# Altium footprint library CM4102008.PcbLib: 1 footprints
Each footprint in its own frame and in the unit in brackets; x right, y up, seen from the top. Pads: shape width x height; smd on the part's side, far side on the other; paste and mask are expansions set on the pad; w line width, h text height; cw(c..) or ccw(c..) is an arc to the next point about the centre after c.
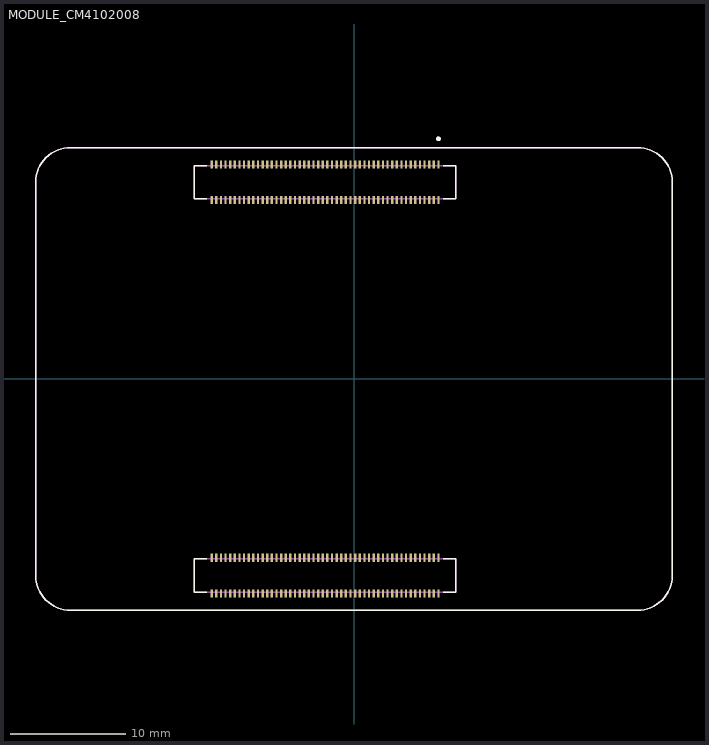
[diagram p0: the footprint, top view; thin cyan lines are the x and y axes]

## MODULE_CM4102008 [mm]
height 5.188
pads (200):
  rect 0.2x0.7 smd: 1(7.3,18.54) 2(7.3,15.46) 3(6.9,18.54) 4(6.9,15.46) 5(6.5,18.54) 6(6.5,15.46) 7(6.1,18.54) 8(6.1,15.46) 9(5.7,18.54) 10(5.7,15.46) 11(5.3,18.54) 12(5.3,15.46) 13(4.9,18.54) 14(4.9,15.46) 15(4.5,18.54) 16(4.5,15.46) 17(4.1,18.54) 18(4.1,15.46) 19(3.7,18.54) 20(3.7,15.46) 21(3.3,18.54) 22(3.3,15.46) 23(2.9,18.54) 24(2.9,15.46) 25(2.5,18.54) 26(2.5,15.46) 27(2.1,18.54) 28(2.1,15.46) 29(1.7,18.54) 30(1.7,15.46) 31(1.3,18.54) 32(1.3,15.46) 33(0.9,18.54) 34(0.9,15.46) 35(0.5,18.54) 36(0.5,15.46) 37(0.1,18.54) 38(0.1,15.46) 39(-0.3,18.54) 40(-0.3,15.46) 41(-0.7,18.54) 42(-0.7,15.46) 43(-1.1,18.54) 44(-1.1,15.46) 45(-1.5,18.54) 46(-1.5,15.46) 47(-1.9,18.54) 48(-1.9,15.46) 49(-2.3,18.54) 50(-2.3,15.46) 51(-2.7,18.54) 52(-2.7,15.46) 53(-3.1,18.54) 54(-3.1,15.46) 55(-3.5,18.54) 56(-3.5,15.46) 57(-3.9,18.54) 58(-3.9,15.46) 59(-4.3,18.54) 60(-4.3,15.46) 61(-4.7,18.54) 62(-4.7,15.46) 63(-5.1,18.54) 64(-5.1,15.46) 65(-5.5,18.54) 66(-5.5,15.46) 67(-5.9,18.54) 68(-5.9,15.46) 69(-6.3,18.54) 70(-6.3,15.46) 71(-6.7,18.54) 72(-6.7,15.46) 73(-7.1,18.54) 74(-7.1,15.46) 75(-7.5,18.54) 76(-7.5,15.46) 77(-7.9,18.54) 78(-7.9,15.46) 79(-8.3,18.54) 80(-8.3,15.46) 81(-8.7,18.54) 82(-8.7,15.46) 83(-9.1,18.54) 84(-9.1,15.46) 85(-9.5,18.54) 86(-9.5,15.46) 87(-9.9,18.54) 88(-9.9,15.46) 89(-10.3,18.54) 90(-10.3,15.46) 91(-10.7,18.54) 92(-10.7,15.46) 93(-11.1,18.54) 94(-11.1,15.46) 95(-11.5,18.54) 96(-11.5,15.46) 97(-11.9,18.54) 98(-11.9,15.46) 99(-12.3,18.54) 100(-12.3,15.46) 101(7.3,-15.46) 102(7.3,-18.54) 103(6.9,-15.46) 104(6.9,-18.54) 105(6.5,-15.46) 106(6.5,-18.54) 107(6.1,-15.46) 108(6.1,-18.54) 109(5.7,-15.46) 110(5.7,-18.54) 111(5.3,-15.46) 112(5.3,-18.54) 113(4.9,-15.46) 114(4.9,-18.54) 115(4.5,-15.46) 116(4.5,-18.54) 117(4.1,-15.46) 118(4.1,-18.54) 119(3.7,-15.46) 120(3.7,-18.54) 121(3.3,-15.46) 122(3.3,-18.54) 123(2.9,-15.46) 124(2.9,-18.54) 125(2.5,-15.46) 126(2.5,-18.54) 127(2.1,-15.46) 128(2.1,-18.54) 129(1.7,-15.46) 130(1.7,-18.54) 131(1.3,-15.46) 132(1.3,-18.54) 133(0.9,-15.46) 134(0.9,-18.54) 135(0.5,-15.46) 136(0.5,-18.54) 137(0.1,-15.46) 138(0.1,-18.54) 139(-0.3,-15.46) 140(-0.3,-18.54) 141(-0.7,-15.46) 142(-0.7,-18.54) 143(-1.1,-15.46) 144(-1.1,-18.54) 145(-1.5,-15.46) 146(-1.5,-18.54) 147(-1.9,-15.46) 148(-1.9,-18.54) 149(-2.3,-15.46) 150(-2.3,-18.54) 151(-2.7,-15.46) 152(-2.7,-18.54) 153(-3.1,-15.46) 154(-3.1,-18.54) 155(-3.5,-15.46) 156(-3.5,-18.54) 157(-3.9,-15.46) 158(-3.9,-18.54) 159(-4.3,-15.46) 160(-4.3,-18.54) 161(-4.7,-15.46) 162(-4.7,-18.54) 163(-5.1,-15.46) 164(-5.1,-18.54) 165(-5.5,-15.46) 166(-5.5,-18.54) 167(-5.9,-15.46) 168(-5.9,-18.54) 169(-6.3,-15.46) 170(-6.3,-18.54) 171(-6.7,-15.46) 172(-6.7,-18.54) 173(-7.1,-15.46) 174(-7.1,-18.54) 175(-7.5,-15.46) 176(-7.5,-18.54) 177(-7.9,-15.46) 178(-7.9,-18.54) 179(-8.3,-15.46) 180(-8.3,-18.54) 181(-8.7,-15.46) 182(-8.7,-18.54) 183(-9.1,-15.46) 184(-9.1,-18.54) 185(-9.5,-15.46) 186(-9.5,-18.54) 187(-9.9,-15.46) 188(-9.9,-18.54) 189(-10.3,-15.46) 190(-10.3,-18.54) 191(-10.7,-15.46) 192(-10.7,-18.54) 193(-11.1,-15.46) 194(-11.1,-18.54) 195(-11.5,-15.46) 196(-11.5,-18.54) 197(-11.9,-15.46) 198(-11.9,-18.54) 199(-12.3,-15.46) 200(-12.3,-18.54)
Top Overlay:
  circle w0.2: c7.3,20.75 r0.1
  lines w0.127: -12.72,-18.44 -13.8,-18.44 -13.8,-15.56 -12.72,-15.56 ; -12.72,15.56 -13.8,15.56 -13.8,18.44 -12.72,18.44 ; 7.72,-18.44 8.8,-18.44 8.8,-15.56 7.72,-15.56 ; 7.72,15.56 8.8,15.56 8.8,18.44 7.72,18.44 ; -27.5,-17 ccw(c-24.5,-17) -24.5,-20 24.5,-20 ccw(c24.5,-17) 27.5,-17 27.5,17 ccw(c24.5,17) 24.5,20 -24.5,20 ccw(c-24.5,17) -27.5,17 -27.5,-17
Mechanical 13:
  circle w0.2: c7.3,20.75 r0.1
  lines w0.127: -27.5,-17 ccw(c-24.5,-17) -24.5,-20 24.5,-20 ccw(c24.5,-17) 27.5,-17 27.5,17 ccw(c24.5,17) 24.5,20 -24.5,20 ccw(c-24.5,17) -27.5,17 -27.5,-17 ; -13.8,-18.44 8.8,-18.44 8.8,-15.56 -13.8,-15.56 -13.8,-18.44 ; -13.8,15.56 8.8,15.56 8.8,18.44 -13.8,18.44 -13.8,15.56
  text "101-200" at -2.5,-17 h0.81
  text "1-100" at -2.5,17 h0.81